# EAGLE library part DPDT_SMTD (library jason_eagle6)
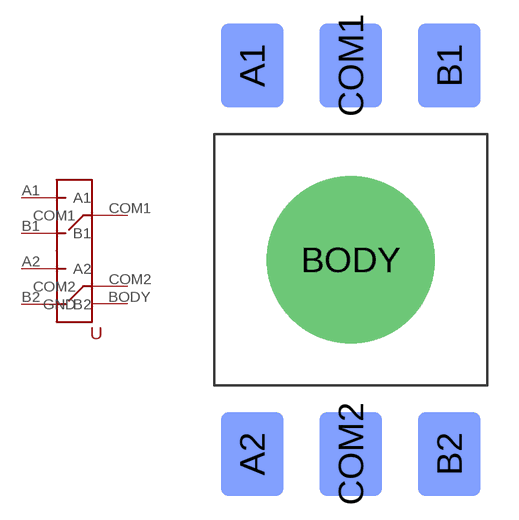
[diagram p28: symbol with the pads of DPDT_SMTD; footprint DPDT_SMTD]

Designator prefix -

## DPDT_SMTD  [DPDT_SMTD]
A1  A1
A2  A2
B1  B1
B2  B2
BODY  GND
COM1  COM1
COM2  COM2

## Footprint DPDT_SMTD (pad centres in mm)
smd 3 x 4 bottom: A1 -4.7,9.27; A2 -4.7,-9.27; B1 4.7,9.27; B2 4.7,-9.27; COM1 0,9.27; COM2 0,-9.27
drill 6 pad 8: BODY 0,0